# Altium footprint library 629105150521.PcbLib: 1 footprints
Each footprint in its own frame and in the unit in brackets; x right, y up, seen from the top. Pads: shape width x height; smd on the part's side, far side on the other; paste and mask are expansions set on the pad; w line width, h text height; cw(c..) or ccw(c..) is an arc to the next point about the centre after c.
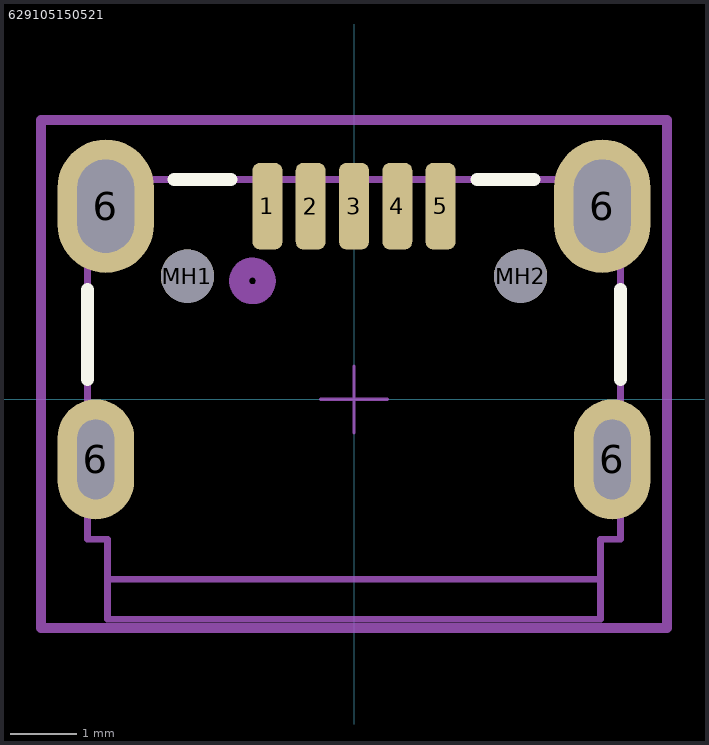
[diagram p0: the footprint, top view; thin cyan lines are the x and y axes]

## 629105150521 [mm] "Micro USB 2.0 SMT Type B Horizontal 5 Contacts High Current"
height 2.66
pads (11):
  rrect50% 0.45x1.3 smd: 1(-1.3,2.9) 2(-0.65,2.9) 3(0,2.9) 4(0.65,2.9) 5(1.3,2.9)
  oval 1.15x1.8 hole 0.55 slot 1.2 at 90 deg: 6(-3.875,-0.9) 6(3.875,-0.9)
  oval 1.45x2 hole 0.85 slot 1.4 at 90 deg: 6(-3.725,2.9) 6(3.725,2.9)
  round 0.8 hole 0.8 unplated: MH1(-2.5,1.85) MH2(2.5,1.85)
Top Overlay:
  lines w0.2: -4,0.3 -4,1.65 ; -2.7,3.3 -1.85,3.3 ; 1.85,3.3 2.7,3.3 ; 4,0.3 4,1.65
Top Assembly:
  circle w0.3: c-1.524,1.778 r0.2
  lines w0.1: -3.7,-2.7 3.7,-2.7 ; -4,-2.1 -3.7,-2.1 -3.7,-3.3 3.7,-3.3 3.7,-2.1 4,-2.1 4,3.3 -4,3.3 -4,-2.1
  text "'.Designator'" at -2.763,0.583 h0.5
  text "PCB Edge" at -1.3,-3.3 h0.41
Top Courtyard:
  lines w0.05: -0.5,0 0.5,0 ; 0,-0.5 0,0.5
  lines w0.15: -4.699,-3.429 -4.699,3.175 -4.699,4.191 4.699,4.191 4.699,-3.429 -4.699,-3.429
3D body "629105150521.stp": height 2.75, standoff -1.77, extent -4,-3.3 4,3.303